# Altium footprint library connectors.PcbLib: 15 footprints
Each footprint in its own frame and in the unit in brackets; x right, y up, seen from the top. Pads: shape width x height; smd on the part's side, far side on the other; paste and mask are expansions set on the pad; w line width, h text height; cw(c..) or ccw(c..) is an arc to the next point about the centre after c.
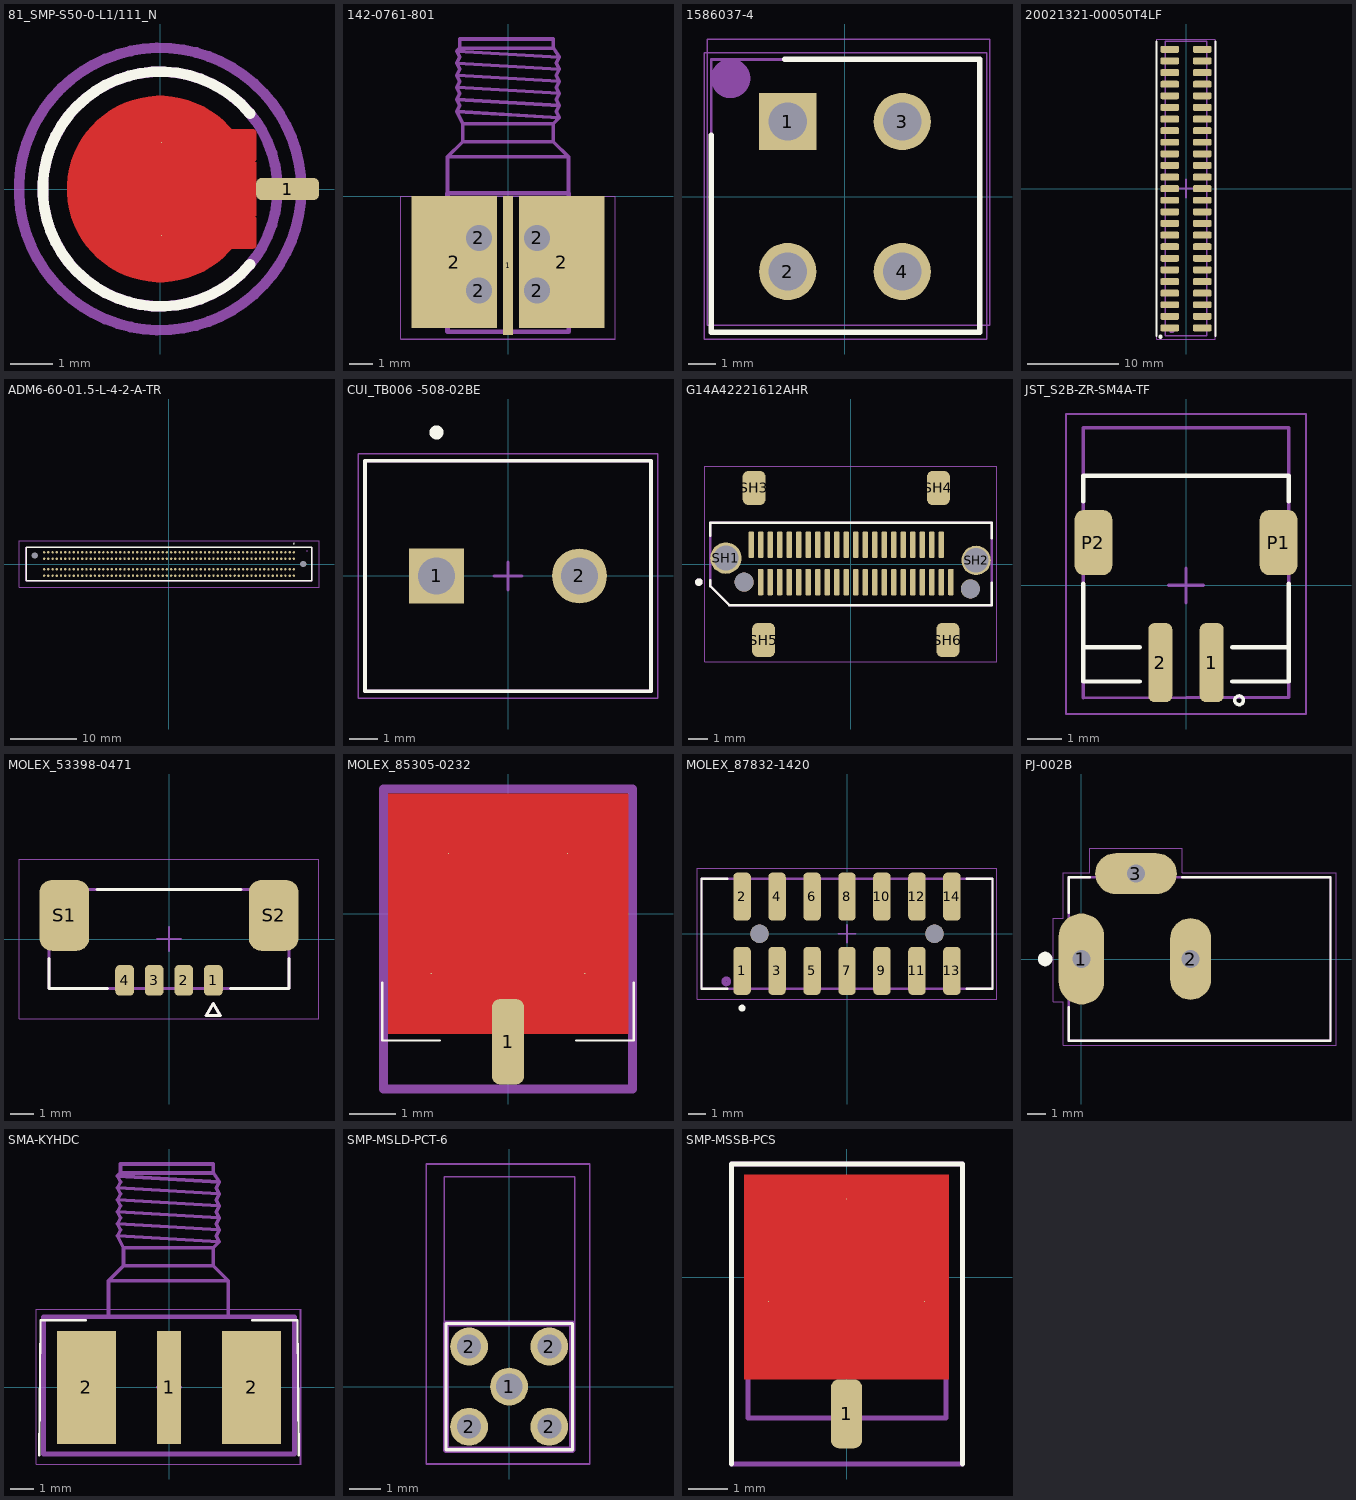
[diagram p0: the footprints below, top view; thin cyan lines are the x and y axes]

## 81_SMP-S50-0-L1/111_N [mm]
pads (3):
  rrect50% 1.5x0.53 smd: 1(3.04,0)
  round 0.025 smd paste-0.221: 2(0.035,-1.11) 2(0.035,1.11)
Top Layer:
  pour cut-out: 0.001,0.955 0,0.955 -0.094,0.955 -0.279,0.918 -0.452,0.846 -0.609,0.742 -0.742,0.609 -0.846,0.452 -0.918,0.279 -0.955,0.094 -0.955,0 -0.955,-0.094 -0.918,-0.279 -0.846,-0.452 -0.742,-0.609 -0.609,-0.742 -0.452,-0.846 -0.279,-0.918 -0.094,-0.955 0,-0.955 0.008,-0.955 0.1,-0.955 0.28,-0.919 0.449,-0.849 0.601,-0.747 0.666,-0.683 0.71,-0.639 2.29,-0.639 2.29,0.639 0.71,0.639 0.666,0.682 0.602,0.747 0.449,0.849 0.28,0.919 0.1,0.955 0.008,0.955
  pour cut-out: -0.047,-0.955 -0.136,-0.955 -0.312,-0.92 -0.477,-0.852 -0.626,-0.752 -0.752,-0.626 -0.852,-0.477 -0.92,-0.312 -0.955,-0.136 -0.955,-0.047 -0.955,0.047 -0.955,0.136 -0.92,0.312 -0.852,0.477 -0.752,0.626 -0.626,0.752 -0.477,0.852 -0.312,0.92 -0.136,0.955 -0.047,0.955 0.058,0.955 0.263,0.914 0.457,0.834 0.631,0.717 0.705,0.643 0.71,0.639 2.29,0.639 2.29,-0.639 0.71,-0.639 0.705,-0.643 0.631,-0.717 0.457,-0.834 0.263,-0.914 0.058,-0.955
  region: -0.955,0 -0.953,0.057 -0.939,0.172 -0.912,0.283 -0.871,0.391 -0.818,0.493 -0.753,0.587 -0.677,0.674 -0.591,0.75 -0.497,0.816 -0.395,0.869 -0.288,0.911 -0.177,0.939 -0.062,0.953 0.052,0.954 0.167,0.94 0.278,0.913 0.386,0.873 0.488,0.821 0.583,0.756 0.67,0.681 0.71,0.639 2.211,0.639 2.226,0.639 2.256,0.651 2.278,0.673 2.29,0.703 2.29,0.718 2.29,1.347 2.29,1.362 2.279,1.39 2.257,1.411 2.23,1.423 2.215,1.423 1.704,1.423 1.642,1.497 1.505,1.635 1.357,1.76 1.198,1.871 1.03,1.969 0.855,2.051 0.672,2.118 0.485,2.169 0.294,2.203 0.101,2.22 -0.093,2.22 -0.287,2.204 -0.478,2.17 -0.665,2.12 -0.848,2.054 -1.024,1.972 -1.192,1.875 -1.351,1.764 -1.5,1.64 -1.637,1.502 -1.762,1.354 -1.873,1.195 -1.971,1.027 -2.053,0.851 -2.119,0.669 -2.169,0.481 -2.203,0.29 -2.22,0.097 -2.22,0
  region: -2.22,0 -2.22,-0.097 -2.203,-0.29 -2.169,-0.481 -2.119,-0.669 -2.053,-0.851 -1.971,-1.027 -1.873,-1.195 -1.762,-1.354 -1.637,-1.502 -1.5,-1.64 -1.351,-1.764 -1.192,-1.875 -1.024,-1.972 -0.848,-2.054 -0.665,-2.12 -0.478,-2.17 -0.287,-2.204 -0.093,-2.22 0.101,-2.22 0.294,-2.203 0.485,-2.169 0.672,-2.118 0.855,-2.051 1.03,-1.969 1.198,-1.871 1.357,-1.76 1.505,-1.635 1.642,-1.497 1.704,-1.423 2.208,-1.423 2.224,-1.423 2.254,-1.41 2.277,-1.387 2.29,-1.357 2.29,-1.34 2.29,-0.702 2.29,-0.69 2.28,-0.666 2.263,-0.649 2.239,-0.639 2.227,-0.639 0.71,-0.639 0.67,-0.681 0.583,-0.756 0.488,-0.821 0.386,-0.873 0.278,-0.914 0.167,-0.94 0.052,-0.954 -0.062,-0.953 -0.176,-0.939 -0.288,-0.911 -0.395,-0.869 -0.497,-0.816 -0.591,-0.75 -0.677,-0.674 -0.753,-0.587 -0.818,-0.493 -0.871,-0.391 -0.912,-0.283 -0.939,-0.172 -0.953,-0.057 -0.955,0
Top Overlay:
  lines w0.254: 2.145,-1.8 cw(c0,0) 2.145,1.8
Top Assembly:
  circle w0.254: c0,0 r2.8
  text ".Designator" at -1.798,-0.181 h0.8
Top Courtyard (Mech15):
  circle w0.254: c0,0 r3.368
  lines w0.1: -0.6,0 0,0 ; 0,-0.6 0,0 ; 0,0.6 0,0 ; 0.6,0 0,0
3D body "3D-outline.step": height 4.57, standoff 0, extent -2.095,-2.084 2.87,2.084

## 142-0761-801 [mil]
pads (7):
  rect 16x230 smd: 1(0,-115)
  rect 142x218 smd: 2(-89,-109) 2(89,-109)
  round 60 hole 43: 2(-48,-156) 2(-48,-69) 2(48,-156) 2(48,-69)
Top Solder:
  region: 162,-220 17,-220 17,2 162,2
  region: -17,-220 -162,-220 -162,2 -17,2
  region: 11,-50 -11,-50 -11,2 11,2
Top Assembly:
  lines w6: -100,65 100,65 ; -100,65 -75,90 ; -100,65 -100,5 100,5 100,65 ; -85,140 85,130 ; -85,140 -75,120 ; -85,140 -80,150 -85,160 ; -85,160 85,150 ; -85,160 -80,170 -85,180 ; -85,180 85,170 ; -85,180 -80,190 -85,200 ; -85,200 85,190 ; -85,200 -80,210 -85,220 ; -85,220 85,210 ; -85,220 -80,230 -85,240 ; -85,240 85,230 ; -85,240 -80,245 ; -80,245 75,245 ; -80,245 -80,260 75,260 75,245 ; -75,90 75,90 ; -75,90 -75,120 ; -75,120 75,120 ; 75,90 75,120 ; 75,90 100,65 ; 75,120 85,130 ; 75,245 85,230 ; 85,130 80,140 85,150 ; 85,150 80,160 85,170 ; 85,170 80,180 85,190 ; 85,190 80,200 85,210 ; 85,210 80,220 85,230
  lines w7.87: -100,-224.41 100.39,-224.41 100.39,5 -100,5 -100,-224.41
  text ".Designator" at -98.39,-83.33 h19.68
Top Courtyard (Mech15):
  lines w1.97: -177.17,-236.22 177.17,-236.22 177.17,0 -177.17,0 -177.17,-236.22
Bottom Courtyard:
  lines w1.97: -177.17,-236.22 177.17,-236.22 177.17,0 -177.17,0 -177.17,-236.22
3D body "step_temp.STEP": height 128.94, standoff -121.06, extent -124.96,-178.53 124.93,375.47

## 1586037-4 [mm]
pads (4):
  rect 2.1x2.1 / inner round 2.1 / far side rect 2.1x2.1 hole 1.4: 1(-2.1,2.75)
  round 2.1 hole 1.4: 2(-2.1,-2.75) 3(2.1,2.75) 4(2.1,-2.75)
Top Overlay:
  lines w0.2: -4.9,2.25 -4.9,-4.975 4.95,-4.975 4.95,5.025 -2.2,5.025
Top Assembly:
  circle w1: c-4.196,4.33 r0.224
  lines w0.05: -5.15,-5.225 -5.15,5.275 5.2,5.275 5.2,-5.225 -5.15,-5.225
  text ".Designator" at -2.251,-0.226 h1
Bottom Assembly:
  lines w0.05: -5.05,-4.725 5.3,-4.725 5.3,5.775 -5.05,5.775 -5.05,-4.725
Top Courtyard (Mech15):
  lines w0.1: -4.9,-4.975 4.95,-4.975 4.95,5.025 -4.9,5.025 -4.9,-4.975
3D body "1586037-4.stp": height 13.1, standoff -3.2, extent -5.197,-6.075 4.8,4.875

## 20021321-00050T4LF [mm]
pads (50):
  rrect50% 2.05x0.76 smd: 1(-1.775,-15.24) 2(1.775,-15.24) 3(-1.775,-13.97) 4(1.775,-13.97) 5(-1.775,-12.7) 6(1.775,-12.7) 7(-1.775,-11.43) 8(1.775,-11.43) 9(-1.775,-10.16) 10(1.775,-10.16) 11(-1.775,-8.89) 12(1.775,-8.89) 13(-1.775,-7.62) 14(1.775,-7.62) 15(-1.775,-6.35) 16(1.775,-6.35) 17(-1.775,-5.08) 18(1.775,-5.08) 19(-1.775,-3.81) 20(1.775,-3.81) 21(-1.775,-2.54) 22(1.775,-2.54) 23(-1.775,-1.27) 24(1.775,-1.27) 25(-1.775,0) 26(1.775,0) 27(-1.775,1.27) 28(1.775,1.27) 29(-1.775,2.54) 30(1.775,2.54) 31(-1.775,3.81) 32(1.775,3.81) 33(-1.775,5.08) 34(1.775,5.08) 35(-1.775,6.35) 36(1.775,6.35) 37(-1.775,7.62) 38(1.775,7.62) 39(-1.775,8.89) 40(1.775,8.89) 41(-1.775,10.16) 42(1.775,10.16) 43(-1.775,11.43) 44(1.775,11.43) 45(-1.775,12.7) 46(1.775,12.7) 47(-1.775,13.97) 48(1.775,13.97) 49(-1.775,15.24) 50(1.775,15.24)
Top Overlay:
  circle w0.254: c-2.8,-16.2 r0.1
  lines w0.2: -3.221,-16.105 -3.221,16.105 ; 3.221,-16.105 3.221,16.105
Top Assembly:
  circle w0.254: c-1.55,-15.5 r0.175
  lines w0.15: -2.25,-16.105 2.25,-16.105 2.25,16.105 -2.25,16.105 -2.25,-16.105
  text ".Designator" at 0.226,-2.251 h1
Top Courtyard (Mech15):
  lines w0.1: -3.225,-16.45 3.225,-16.45 3.225,16.375 -3.225,16.375 -3.225,-16.45
  lines w0.2: -1,0 1,0 ; 0,-1 0,1
3D body: height 4.5, standoff 0, extent -2.25,-16.105 2.25,16.105

## ADM6-60-01.5-L-4-2-A-TR [mm]
pads (242):
  round 0.356 smd: A01(18.732,1.75) A02(18.097,1.75) A03(17.462,1.75) A04(16.827,1.75) A05(16.192,1.75) A06(15.557,1.75) A07(14.922,1.75) A08(14.287,1.75) A09(13.652,1.75) A10(13.017,1.75) A11(12.382,1.75) A12(11.747,1.75) A13(11.112,1.75) A14(10.477,1.75) A15(9.842,1.75) A16(9.207,1.75) A17(8.572,1.75) A18(7.937,1.75) A19(7.302,1.75) A20(6.667,1.75) A21(6.032,1.75) A22(5.397,1.75) A23(4.762,1.75) A24(4.127,1.75) A25(3.492,1.75) A26(2.857,1.75) A27(2.222,1.75) A28(1.587,1.75) A29(0.952,1.75) A30(0.317,1.75) A31(-0.318,1.75) A32(-0.953,1.75) A33(-1.588,1.75) A34(-2.223,1.75) A35(-2.858,1.75) A36(-3.493,1.75) A37(-4.128,1.75) A38(-4.763,1.75) A39(-5.398,1.75) A40(-6.033,1.75) A41(-6.668,1.75) A42(-7.303,1.75) A43(-7.938,1.75) A44(-8.573,1.75) A45(-9.208,1.75) A46(-9.843,1.75) A47(-10.478,1.75) A48(-11.113,1.75) A49(-11.748,1.75) A50(-12.383,1.75) A51(-13.018,1.75) A52(-13.653,1.75) A53(-14.288,1.75) A54(-14.923,1.75) A55(-15.558,1.75) A56(-16.193,1.75) A57(-16.828,1.75) A58(-17.463,1.75) A59(-18.098,1.75) A60(-18.733,1.75) B01(18.732,0.79) B02(18.097,0.79) B03(17.462,0.79) B04(16.827,0.79) B05(16.192,0.79) B06(15.557,0.79) B07(14.922,0.79) B08(14.287,0.79) B09(13.652,0.79) B10(13.017,0.79) B11(12.382,0.79) B12(11.747,0.79) B13(11.112,0.79) B14(10.477,0.79) B15(9.842,0.79) B16(9.207,0.79) B17(8.572,0.79) B18(7.937,0.79) B19(7.302,0.79) B20(6.667,0.79) B21(6.032,0.79) B22(5.397,0.79) B23(4.762,0.79) B24(4.127,0.79) B25(3.492,0.79) B26(2.857,0.79) B27(2.222,0.79) B28(1.587,0.79) B29(0.952,0.79) B30(0.317,0.79) B31(-0.318,0.79) B32(-0.953,0.79) B33(-1.588,0.79) B34(-2.223,0.79) B35(-2.858,0.79) B36(-3.493,0.79) B37(-4.128,0.79) B38(-4.763,0.79) B39(-5.398,0.79) B40(-6.033,0.79) B41(-6.668,0.79) B42(-7.303,0.79) B43(-7.938,0.79) B44(-8.573,0.79) B45(-9.208,0.79) B46(-9.843,0.79) B47(-10.478,0.79) B48(-11.113,0.79) B49(-11.748,0.79) B50(-12.383,0.79) B51(-13.018,0.79) B52(-13.653,0.79) B53(-14.288,0.79) B54(-14.923,0.79) B55(-15.558,0.79) B56(-16.193,0.79) B57(-16.828,0.79) B58(-17.463,0.79) B59(-18.098,0.79) B60(-18.733,0.79) C01(18.732,-0.79) C02(18.097,-0.79) C03(17.462,-0.79) C04(16.827,-0.79) C05(16.192,-0.79) C06(15.557,-0.79) C07(14.922,-0.79) C08(14.287,-0.79) C09(13.652,-0.79) C10(13.017,-0.79) C11(12.382,-0.79) C12(11.747,-0.79) C13(11.112,-0.79) C14(10.477,-0.79) C15(9.842,-0.79) C16(9.207,-0.79) C17(8.572,-0.79) C18(7.937,-0.79) C19(7.302,-0.79) C20(6.667,-0.79) C21(6.032,-0.79) C22(5.397,-0.79) C23(4.762,-0.79) C24(4.127,-0.79) C25(3.492,-0.79) C26(2.857,-0.79) C27(2.222,-0.79) C28(1.587,-0.79) C29(0.952,-0.79) C30(0.317,-0.79) C31(-0.318,-0.79) C32(-0.953,-0.79) C33(-1.588,-0.79) C34(-2.223,-0.79) C35(-2.858,-0.79) C36(-3.493,-0.79) C37(-4.128,-0.79) C38(-4.763,-0.79) C39(-5.398,-0.79) C40(-6.033,-0.79) C41(-6.668,-0.79) C42(-7.303,-0.79) C43(-7.938,-0.79) C44(-8.573,-0.79) C45(-9.208,-0.79) C46(-9.843,-0.79) C47(-10.478,-0.79) C48(-11.113,-0.79) C49(-11.748,-0.79) C50(-12.383,-0.79) C51(-13.018,-0.79) C52(-13.653,-0.79) C53(-14.288,-0.79) C54(-14.923,-0.79) C55(-15.558,-0.79) C56(-16.193,-0.79) C57(-16.828,-0.79) C58(-17.463,-0.79) C59(-18.098,-0.79) C60(-18.733,-0.79) D01(18.732,-1.75) D02(18.097,-1.75) D03(17.462,-1.75) D04(16.827,-1.75) D05(16.192,-1.75) D06(15.557,-1.75) D07(14.922,-1.75) D08(14.287,-1.75) D09(13.652,-1.75) D10(13.017,-1.75) D11(12.382,-1.75) D12(11.747,-1.75) D13(11.112,-1.75) D14(10.477,-1.75) D15(9.842,-1.75) D16(9.207,-1.75) D17(8.572,-1.75) D18(7.937,-1.75) D19(7.302,-1.75) D20(6.667,-1.75) D21(6.032,-1.75) D22(5.397,-1.75) D23(4.762,-1.75) D24(4.127,-1.75) D25(3.492,-1.75) D26(2.857,-1.75) D27(2.222,-1.75) D28(1.587,-1.75) D29(0.952,-1.75) D30(0.317,-1.75) D31(-0.318,-1.75) D32(-0.953,-1.75) D33(-1.588,-1.75) D34(-2.223,-1.75) D35(-2.858,-1.75) D36(-3.493,-1.75) D37(-4.128,-1.75) D38(-4.763,-1.75) D39(-5.398,-1.75) D40(-6.033,-1.75) D41(-6.668,-1.75) D42(-7.303,-1.75) D43(-7.938,-1.75) D44(-8.573,-1.75) D45(-9.208,-1.75) D46(-9.843,-1.75) D47(-10.478,-1.75) D48(-11.113,-1.75) D49(-11.748,-1.75) D50(-12.383,-1.75) D51(-13.018,-1.75) D52(-13.653,-1.75) D53(-14.288,-1.75) D54(-14.923,-1.75) D55(-15.558,-1.75) D56(-16.193,-1.75) D57(-16.828,-1.75) D58(-17.463,-1.75) D59(-18.098,-1.75) D60(-18.733,-1.75)
  round 0.475 hole 0.95 unplated: ""(-20.135,1.27) ""(20.135,0)
Top Overlay:
  lines w0.1: 18.732,3 cw(c18.732,3.05) 18.732,3.1 cw(c18.732,3.05) 18.732,3
  lines w0.2: -21.41,-2.5 -21.41,2.5 21.41,2.5 21.41,-2.5 -21.41,-2.5
Top Assembly:
  circle w0.1: c20.675,1.975 r0.05
  lines w0.05: -21.5,-2.5 21.5,-2.5 21.5,2.5 -21.5,2.5 -21.5,-2.5
  text ".Designator" at -2.251,-0.226 h1
Top Courtyard (Mech15):
  lines w0.05: -22.5,-3.5 22.5,-3.5 22.5,3.5 -22.5,3.5 -22.5,-3.5
3D body "ADM6-60-01.5-L-4-2-A-TR.stp": height 3.6, standoff -1.17, extent -21.41,-2.5 21.41,2.5

## CUI_TB006 -508-02BE [mm]
pads (2):
  rect 1.95x1.95 / inner round 1.95 / far side rect 1.95x1.95 hole 1.3: 1(-2.54,0)
  round 1.95 hole 1.3: 2(2.54,0)
Top Overlay:
  circle w0.3: c-2.54,5.1 r0.1
  circle w0.2: c-2.54,5.1 r0.1
  lines w0.127: -5.08,-4.1 -5.08,4.1 5.08,4.1 5.08,-4.1 -5.08,-4.1
Top Assembly:
  lines w0.127: -5.08,-4.1 -5.08,4.1 5.08,4.1 5.08,-4.1 -5.08,-4.1
  text ".Designator" at -1.121,-0.113 h0.5
Top Courtyard (Mech15):
  lines w0.05: -5.33,-4.35 5.33,-4.35 5.33,4.35 -5.33,4.35 -5.33,-4.35
  lines w0.1: -0.5,0 0.5,0 ; 0,-0.5 0,0.5
3D body "Same_Sky_TB006-508-02BE.step": height 10, standoff -3.8, extent -5.1,-4.1 5.56,4.1

## G14A42221612AHR [mm]
height 6.66
pads (50):
  rrect50% 0.3x1.4 smd: A1(-4.75,-0.95) A2(-4.25,-0.95) A3(-3.75,-0.95) A4(-3.25,-0.95) A5(-2.75,-0.95) A6(-2.25,-0.95) A7(-1.75,-0.95) A8(-1.25,-0.95) A9(-0.75,-0.95) A10(-0.25,-0.95) A11(0.25,-0.95) A12(0.75,-0.95) A13(1.25,-0.95) A14(1.75,-0.95) A15(2.25,-0.95) A16(2.75,-0.95) A17(3.25,-0.95) A18(3.75,-0.95) A19(4.25,-0.95) A20(4.75,-0.95) A21(5.25,-0.95) B1(-5.25,1.01) B2(-4.75,1.01) B3(-4.25,1.01) B4(-3.75,1.01) B5(-3.25,1.01) B6(-2.75,1.01) B7(-2.25,1.01) B8(-1.75,1.01) B9(-1.25,1.01) B10(-0.75,1.01) B11(-0.25,1.01) B12(0.25,1.01) B13(0.75,1.01) B14(1.25,1.01) B15(1.75,1.01) B16(2.25,1.01) B17(2.75,1.01) B18(3.25,1.01) B19(3.75,1.01) B20(4.25,1.01) B21(4.75,1.01)
  round 1.65 hole 1.3: SH1(-6.58,0.31)
  round 1.55 hole 1.3: SH2(6.58,0.19)
  rrect50% 1.2x1.8 smd: SH3(-5.1,4) SH4(4.6,4) SH5(-4.6,-4) SH6(5.1,-4)
  round 1 hole 1 unplated: ""(-5.62,-0.95) ""(6.28,-1.31)
Top Overlay:
  circle w0.2: c-8,-0.95 r0.1
  lines w0.127: -7.4,-0.86 -7.4,-1.16 -6.4,-2.16 7.4,-2.16 7.4,-0.98 ; -7.4,1.48 -7.4,2.16 7.4,2.16 7.4,1.36
Top Assembly:
  circle w0.2: c-8,-0.95 r0.1
  lines w0.127: -7.4,-1.16 -6.4,-2.16 7.4,-2.16 7.4,2.16 -7.4,2.16 -7.4,-1.16
Top Courtyard (Mech15):
  lines w0.05: -7.68,-5.15 -7.68,5.15 7.68,5.15 7.68,-5.15 -7.68,-5.15
3D body "step_temp.STEP": height 6.65, standoff -2.86, extent -7.4,-4.239 7.4,4.239

## JST_S2B-ZR-SM4A-TF [mm]
pads (4):
  rrect50% 0.7x2.3 smd: 1(0.75,-2.25) 2(-0.75,-2.25)
  rrect50% 1.1x1.9 smd: P1(2.7,1.25) P2(-2.7,1.25)
Top Overlay:
  circle w0.1: c1.55,-3.35 r0.127
  lines w0.127: -3,0.05 -3,-1.8 ; -3,2.45 -3,3.2 3,3.2 3,2.45 ; -1.35,-2.8 -3,-2.8 -3,-1.8 ; -1.35,-1.8 -3,-1.8 ; 1.35,-2.8 3,-2.8 3,-1.8 ; 1.35,-1.8 3,-1.8 ; 3,0.05 3,-1.8
Top Assembly:
  lines w0.1: -3,3.187 3,3.21 ; -3,-3.284 3,-3.261 3,4.6 -3,4.6 -3,-3.284
  text ".Designator" at -1.121,-0.113 h0.5
  text "PCB Edge" at -1.4,3.875 h0.41
Top Courtyard (Mech15):
  lines w0.05: -3.5,-3.75 3.5,-3.75 3.5,5 -3.5,5 -3.5,-3.75
  lines w0.1: -0.5,0 0.5,0 ; 0,-0.5 0,0.5
3D body "step_temp.STEP": height 3.7, standoff 0, extent -3.05,-3.225 2.95,3.275

## MOLEX_53398-0471 [mm]
height 4.7
pads (6):
  rrect50% 0.8x1.3 smd: 1(1.875,-1.75) 2(0.625,-1.75) 3(-0.625,-1.75) 4(-1.875,-1.75)
  rrect50% 2.1x3 smd: S1(-4.425,1) S2(4.425,1)
Top Overlay:
  lines w0.127: -5.075,-0.82 -5.075,-2.1 -2.595,-2.1 ; -3.055,2.1 3.055,2.1 ; 2.595,-2.1 5.075,-2.1 5.075,-0.82 ; 1.575,-3.23 2.175,-3.23 1.875,-2.73 1.575,-3.23
Top Assembly:
  lines w0.127: -5.075,-2.1 -5.075,2.1 5.075,2.1 5.075,-2.1 -5.075,-2.1 ; 1.575,-3.23 2.175,-3.23 1.875,-2.73 1.575,-3.23
  text ".Designator" at -1.121,-0.113 h0.5
Top Courtyard (Mech15):
  lines w0.05: -6.345,-3.37 -6.345,3.37 6.345,3.37 6.345,-3.37 -6.345,-3.37
  lines w0.1: -0.5,0 0.5,0 ; 0,-0.5 0,0.5
3D body "0533980471--3DModel-STEP-231308.STEP": height 4.67, standoff -0.07, extent -5.075,-2.1 5.075,2.1

## MOLEX_85305-0232 [mil]
pads (5):
  rrect50% 27.56x72.83 smd: 1(0,-109.25)
  round 1 smd paste-10.43: 2(-65.45,-51.18) 2(65.45,-51.18)
  round 1 smd paste-11.48: 2(-50.89,51.18) 2(50.89,51.18)
Top Layer:
  pour cut-out: -54.65,-102.36 54.65,-102.36 54.65,54.65 -54.65,54.65
  region: -54.65,0 -54.61,2.71 -54.12,8.1 -53.1,13.42 -51.56,18.61 -49.5,23.62 -46.95,28.4 -43.93,32.89 -40.48,37.07 -36.64,40.88 -32.42,44.28 -27.89,47.25 -23.09,49.75 -18.06,51.75 -12.85,53.24 -7.52,54.2 -2.12,54.63 0.58,54.64 0.58,102.36 -102.36,102.36 -102.36,0
  region: -28.54,-102.36 -28.54,-47.24 -39.29,-36.5 -41.04,-34.66 -44.26,-30.75 -47.09,-26.53 -49.5,-22.07 -51.47,-17.39 -52.98,-12.55 -54.01,-7.58 -54.56,-2.54 -54.65,0 -102.36,0 -102.36,-102.36
  region: 28.54,-102.36 28.54,-47.24 39.29,-36.5 41.04,-34.66 44.26,-30.75 47.09,-26.53 49.5,-22.07 51.47,-17.39 52.98,-12.55 54.01,-7.58 54.56,-2.54 54.65,0 102.36,0 102.36,-102.36
  region: 54.65,0 54.61,2.71 54.12,8.1 53.1,13.42 51.56,18.61 49.5,23.62 46.95,28.4 43.93,32.89 40.48,37.07 36.64,40.88 32.42,44.28 27.89,47.25 23.09,49.75 18.06,51.75 12.85,53.24 7.52,54.2 2.12,54.63 -0.58,54.64 -0.58,102.36 102.36,102.36 102.36,0
Top Overlay:
  lines w1.97: -107.28,-59.06 -107.28,-108.27 -58.07,-108.27 ; 58.07,-108.27 107.28,-108.27 107.28,-59.06
Top Assembly:
  lines w7.87: -106.3,-149.61 106.3,-149.61 106.3,106.3 -106.3,106.3 -106.3,-149.61
  text ".Designator" at -88.63,-8.9 h39.37
Top Courtyard (Mech15):
  lines w3.94: -19.68,0 19.69,0 ; 0,-19.69 0,19.68
  lines w7.87: -106.3,-149.61 -106.3,106.3 106.3,106.3 106.3,-149.61 -106.3,-149.61
Bottom Courtyard:
  lines w3.94: -19.68,0 19.68,0 ; 0,-19.68 0,19.68
3D body "Conn_Molex_85305-0232_eec.STEP": height 166.54, standoff 0, extent -98.43,-137.77 98.43,98.43

## MOLEX_87832-1420 [mm]
height 7.6
pads (16):
  rrect50% 1x2.75 smd: 1(-6,-2.125) 2(-6,2.125) 3(-4,-2.125) 4(-4,2.125) 5(-2,-2.125) 6(-2,2.125) 7(0,-2.125) 8(0,2.125) 9(2,-2.125) 10(2,2.125) 11(4,-2.125) 12(4,2.125) 13(6,-2.125) 14(6,2.125)
  round 1.05 hole 1.05 unplated: ""(-5,0) ""(5,0)
Top Overlay:
  circle w0.2: c-6,-4.25 r0.1
  lines w0.127: -6.85,-3.15 -8.325,-3.15 -8.325,3.15 -6.85,3.15 ; 6.85,-3.15 8.325,-3.15 8.325,3.15 6.85,3.15
Top Assembly:
  circle w0.254: c-6.9,-2.725 r0.152
  lines w0.127: -8.325,-3.15 8.325,-3.15 8.325,3.15 -8.325,3.15 -8.325,-3.15
  text ".Designator" at -2.251,-0.226 h1
Top Courtyard (Mech15):
  lines w0.05: -8.575,-3.75 8.575,-3.75 8.575,3.75 -8.575,3.75 -8.575,-3.75
  lines w0.1: -0.5,0 0.5,0 ; 0,-0.5 0,0.5
3D body "878321420.stp": height 7.6, standoff -1, extent -8.325,-3.15 8.325,3.15

## PJ-002B [mm]
pads (3):
  oval 2.5x5 hole 1 square: 1(0,0)
  oval 2.25x4.5 hole 1 square: 2(6,0)
  oval 4.5x2.25 hole 1 square: 3(3,4.7)
Top Overlay:
  circle w0.4: c-2,0 r0.2
  lines w0.127: -0.7,-2.65 -0.7,-4.5 13.7,-4.5 13.7,4.5 5.55,4.5 ; -0.7,2.55 -0.7,4.5 0.45,4.5
Top Assembly:
  lines w0.127: -0.7,-4.5 -0.7,4.5 13.7,4.5 13.7,-4.5 -0.7,-4.5
  text ".Designator" at 0,-0.226 h1
Top Courtyard (Mech15):
  lines w0.05: -1.55,-2.35 -1,-2.35 -1,-4.75 14,-4.75 14,4.75 5.55,4.75 5.55,6.1 0.45,6.1 0.45,4.75 -1,4.75 -1,2.25 -1.55,2.25 -1.55,-2.35
3D body "step_temp.STEP": height 11, standoff -3.49, extent -0.557,-4.627 13.843,4.773

## SMA-KYHDC [mm]
pads (3):
  rect 1x4.8 smd: 1(0,0)
  rect 2.5x4.8 smd: 2(-3.5,0) 2(3.5,0)
Top Overlay:
  lines w0.1: -5.5,-2.875 -5.45,2.85 -3.525,2.85 ; 3.525,2.85 5.45,2.85 5.5,-2.875
Top Assembly:
  lines w0.152: -2.565,4.524 -2.565,3 2.515,3 2.515,4.524 ; -2.565,4.524 -1.93,5.159 ; -2.565,4.524 2.515,4.524 ; -2.184,6.429 -2.057,6.683 -2.184,6.937 ; -2.184,6.429 -1.93,5.921 ; -2.184,6.429 2.134,6.175 ; -2.184,6.937 -2.057,7.191 -2.184,7.445 ; -2.184,6.937 2.134,6.683 ; -2.184,7.445 -2.057,7.699 -2.184,7.953 ; -2.184,7.445 2.134,7.191 ; -2.184,7.953 -2.057,8.207 -2.184,8.461 ; -2.184,7.953 2.134,7.699 ; -2.184,8.461 -2.057,8.715 -2.184,8.969 ; -2.184,8.461 2.134,8.207 ; -2.184,8.969 -2.057,9.096 ; -2.184,8.969 2.134,8.715 ; -2.057,9.096 -2.057,9.477 1.88,9.477 1.88,9.096 ; -2.057,9.096 1.88,9.096 ; -1.93,5.159 -1.93,5.921 ; -1.93,5.159 1.88,5.159 ; -1.93,5.921 1.88,5.921 ; 1.88,5.159 2.515,4.524 ; 1.88,5.159 1.88,5.921 ; 1.88,5.921 2.134,6.175 ; 1.88,9.096 2.134,8.715 ; 2.134,6.175 2.007,6.429 2.134,6.683 ; 2.134,6.683 2.007,6.937 2.134,7.191 ; 2.134,7.191 2.007,7.445 2.134,7.699 ; 2.134,7.699 2.007,7.953 2.134,8.207 ; 2.134,8.207 2.007,8.461 2.134,8.715
  lines w0.2: -5.325,-2.827 5.325,-2.827 5.325,3 -5.325,3 -5.325,-2.827
  text ".Designator" at -1.146,0.81 h0.5
Top Courtyard (Mech15):
  lines w0.05: -5.625,-3.25 5.575,-3.25 5.575,3.325 -5.625,3.325 -5.625,-3.25
  lines w0.1: -0.5,0 0.5,0 ; 0,-0.5 0,0.5
Bottom Courtyard:
  lines w0.05: -5.625,-3.25 5.6,-3.25 5.6,3.325 -5.625,3.325 -5.625,-3.25
3D body "CON-SMA-EDGE-S--3DModel-STEP-269445.STEP": height 3.55, standoff -2.8, extent -3.175,-1.41 3.175,11.92

## SMP-MSLD-PCT-6 [mm]
pads (5):
  round 1.2 hole 0.83: 1(0,0)
  round 1.2 hole 0.76: 2(-1.27,-1.27) 2(-1.27,1.27) 2(1.27,-1.27) 2(1.27,1.27)
Top Overlay:
  lines w0.1: -2,-2 -2,2 2,2 2,-2 -2,-2
Top Assembly:
  lines w0.05: -2.05,2 2.075,2 2.075,6.65 -2.05,6.65 -2.05,2
  lines w0.2: -2,-2 2,-2 2,2 -2,2 -2,-2
  text ".Designator" at -1.121,-0.113 h0.5
Top Courtyard (Mech15):
  lines w0.05: -2.625,-2.45 2.55,-2.45 2.55,7.05 -2.625,7.05 -2.625,-2.45
  lines w0.1: -0.5,0 0.5,0 ; 0,-0.5 0,0.5
3D body "SMP-MSLD-PCT-6.stp": height 4.4, standoff -3.6, extent -2.08,-1.48 2.08,6.65

## SMP-MSSB-PCS [mm]
pads (4):
  rrect50% 0.8x1.75 smd: 1(0,-3.475)
  round 0.025 smd: 2(-1.98,-0.62) 2(0,1.98) 2(1.98,-0.62)
Top Layer:
  pour cut-out: -1.36,-2.6 -1.36,1.36 1.36,1.36 1.36,-2.6
  region: 2.6,1.36 1.36,1.36 1.36,-2.6 2.6,-2.6
  region: 2.6,1.36 2.6,2.6 -2.6,2.6 -2.6,1.36 -1.36,1.36 1.36,1.36
  region: -1.36,1.36 -2.6,1.36 -2.6,-2.6 -1.36,-2.6
Top Overlay:
  lines w0.127: -2.925,-4.75 -2.925,2.875 2.95,2.875 2.95,-4.75
Top Assembly:
  lines w0.127: -2.499,-3.575 -2.499,2.5 2.525,2.5 2.525,-3.575 -2.499,-3.575
  text ".Designator" at -1.121,-0.113 h0.5
Top Courtyard (Mech15):
  lines w0.1: -0.5,0 0.5,0 ; 0,-0.5 0,0.5
  lines w0.127: -2.925,-4.75 2.95,-4.75 2.95,2.875 -2.925,2.875 -2.925,-4.75
3D body "SMP-MSSB-PCS.stp": height 4.1, standoff -0.02, extent -2.5,-3.543 2.5,2.5